# Altium schematic symbol library RC0402FR-0710RL.SchLib: 1 symbol
Pins are listed as number, name and electrical type; pins without a type are passive.

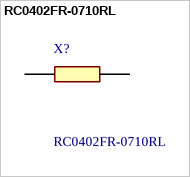
[diagram p0: symbol RC0402FR-0710RL]

## RC0402FR-0710RL
designator X?
Res SMD 0402 10R 1% 0.0625W T.C.200ppm Yageo RC Series Thick Film Surface Mount Resistor 0402 Case 10 +/-1% 0.063W +/-200ppm/C; Manufacturer_Name: Yageo Group; Geometry.Height: 0.4mm; Mouser Part Number: 603-RC0402FR-0710RL; Mouser Price/Stock: https://www.mouser.co.uk/ProductDetail/YAGEO/RC0402FR-0710RL?qs=V1yeUXFNrkkzkWCUUWS9og%3D%3D; Manufacturer_Part_Number: RC0402FR-0710RL; Datasheet Link: http://www.yageo.com/documents/recent/PYu-RC0402_51_RoHS_L_6_r.pdf
footprint RESC1005X40N
pins: 1, 2